# EAGLE library part TG110-S055N2RL (library CameraBoard_Library)
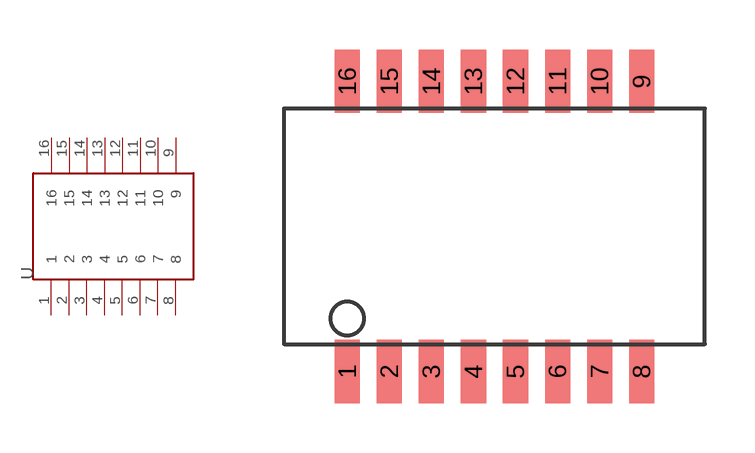
[diagram p1: symbol with the pads of TG110-S055N2RL; footprint TG110-S055N2RL]

Designator prefix -

## TG110-S055N2RL  [TG110-S055N2RL]
1  1
2  2
3  3
4  4
5  5
6  6
7  7
8  8
9  9
10  10
11  11
12  12
13  13
14  14
15  15
16  16

## Footprint TG110-S055N2RL (pad centres in mm)
smd 0.76 x 1.91: 1 1.905,0; 2 3.175,0; 3 4.445,0; 4 5.715,0; 5 6.985,0; 6 8.255,0; 7 9.525,0; 8 10.795,0; 9 10.795,8.76; 10 9.525,8.76; 11 8.255,8.76; 12 6.985,8.76; 13 5.715,8.76; 14 4.445,8.76; 15 3.175,8.76; 16 1.905,8.76